# EAGLE library part TAH_PIN_FOOTPRINT_WITHOUT_ICSP_VER1.0 (library TAH)
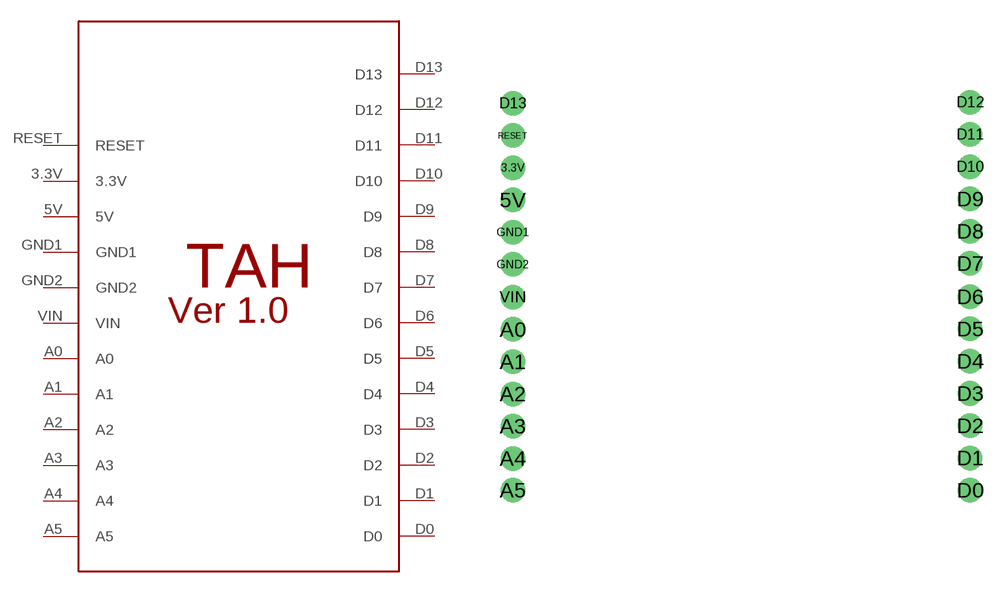
[diagram p2: symbol with the pads of FOOTPRINT_WITHOUT_ICSP; footprint FOOTPRINT_WITHOUT_ICSP]

Designator prefix -

## TAH_PIN_FOOTPRINT_WITHOUT_ICSP_VER1.0  [FOOTPRINT_WITHOUT_ICSP]
3.3V  3.3V
5V  5V
A0  A0
A1  A1
A2  A2
A3  A3
A4  A4
A5  A5
D0  D0
D1  D1
D2  D2
D3  D3
D4  D4
D5  D5
D6  D6
D7  D7
D8  D8
D9  D9
D10  D10
D11  D11
D12  D12
D13  D13
GND1  GND1
GND2  GND2
RESET  RESET
VIN  VIN

## Footprint FOOTPRINT_WITHOUT_ICSP (pad centres in mm)
drill 1 pad 1.93: 3.3V -17.55,11.97; 5V -17.55,9.43; A0 -17.55,-0.77; A1 -17.55,-3.31; A2 -17.55,-5.85; A3 -17.55,-8.39; A4 -17.55,-10.93; A5 -17.55,-13.43; D0 18.45,-13.43; D1 18.45,-10.89; D2 18.45,-8.35; D3 18.45,-5.81; D4 18.45,-3.27; D5 18.45,-0.73; D6 18.45,1.81; D7 18.45,4.43; D8 18.45,6.97; D9 18.45,9.51; D10 18.45,12.05; D11 18.45,14.59; D12 18.45,17.13; D13 -17.55,17.05; GND1 -17.55,6.89; GND2 -17.55,4.35; RESET -17.55,14.51; VIN -17.55,1.77